# EAGLE library part FUSB2805MLX (library Driver_Transceiver ICs)
IC TRANSCEIVER FULL 1/1 32MLP Manufacturer's datasheet <https://www.onsemi.com/pub/Collateral/FUSB2805-D.pdf>
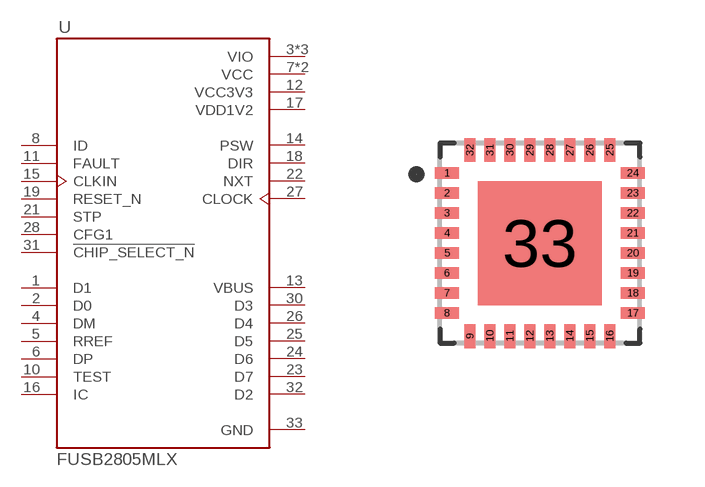
[diagram p13: symbol with the pads of MLP-32; footprint MLP-32]

Designator prefix U

## FUSB2805MLX (CREATED_BY: PCBLayout.com; DIGIKEY_PARTNO: FUSB2805MLXFSTR-ND; MANUFACTURER: ON Semiconductor; MPN: FUSB2805MLX; PACKAGE: MLP-32)  [MLP-32]
1  D1
2  D0
3  VIO  pwr
4  DM
5  RREF
6  DP
7  VCC  pwr
8  ID  in
9  VCC  pwr
10  TEST
11  FAULT  in
12  VCC3V3  pwr
13  VBUS
14  PSW  out
15  CLKIN  in
16  IC
17  VDD1V2  pwr
18  DIR  out
19  RESET_N  in
20  VIO  pwr
21  STP  in
22  NXT  out
23  D7
24  D6
25  D5
26  D4
27  CLOCK  out
28  CFG1  in
29  VIO  pwr
30  D3
31  !CHIP_SELECT_N  in
32  D2
33  GND  pwr

## Footprint MLP-32 (pad centres in mm)
smd 0.6 x 0.28: 1 -2.325,1.75; 2 -2.325,1.25; 3 -2.325,0.75; 4 -2.325,0.25; 5 -2.325,-0.25; 6 -2.325,-0.75; 7 -2.325,-1.25; 8 -2.325,-1.75; 17 2.325,-1.75; 18 2.325,-1.25; 19 2.325,-0.75; 20 2.325,-0.25; 21 2.325,0.25; 22 2.325,0.75; 23 2.325,1.25; 24 2.325,1.75
smd 0.28 x 0.6: 9 -1.75,-2.325; 10 -1.25,-2.325; 11 -0.75,-2.325; 12 -0.25,-2.325; 13 0.25,-2.325; 14 0.75,-2.325; 15 1.25,-2.325; 16 1.75,-2.325; 25 1.75,2.325; 26 1.25,2.325; 27 0.75,2.325; 28 0.25,2.325; 29 -0.25,2.325; 30 -0.75,2.325; 31 -1.25,2.325; 32 -1.75,2.325
smd 3.1 x 3.1: 33 0,0